# EAGLE library part 6-PIN-ROTARY-1 (library trash-robot-eagle-library)
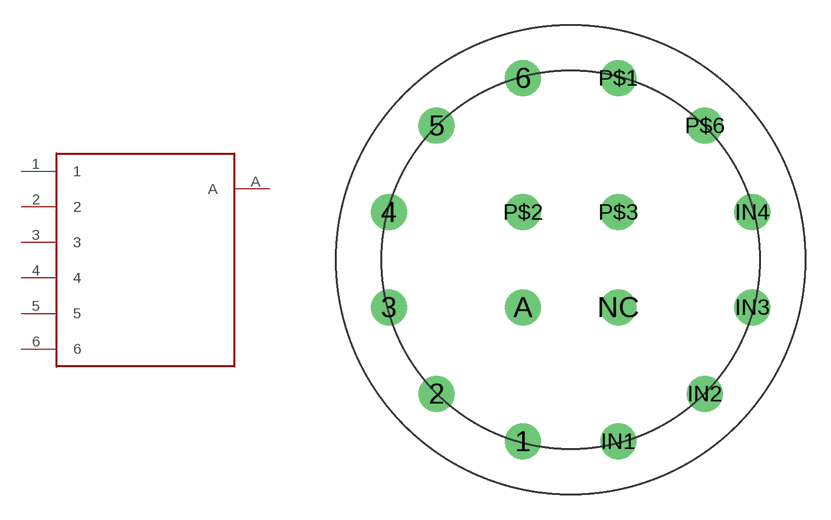
[diagram p1: symbol with the pads of 6-PIN-ROTARY-1; footprint 6-PIN-ROTARY-1]

Designator prefix -

## 6-PIN-ROTARY-1  [6-PIN-ROTARY-1]
1  1
2  2
3  3
4  4
5  5
6  6
A  A

## Footprint 6-PIN-ROTARY-1 (pad centres in mm)
drill 1.4: 1 -2.794,-10.668; 2 -7.874,-7.874; 3 -10.668,-2.794; 4 -10.668,2.794; 5 -7.874,7.874; 6 -2.794,10.668; A -2.794,-2.794; IN1 2.794,-10.668; IN2 7.874,-7.874; IN3 10.668,-2.794; IN4 10.668,2.794; NC 2.794,-2.794; P$1 2.794,10.668; P$2 -2.794,2.794; P$3 2.794,2.794; P$6 7.874,7.874